# Altium footprint library Moudle_PcbLib.PcbLib: 5 footprints
Each footprint in its own frame and in the unit in brackets; x right, y up, seen from the top. Pads: shape width x height; smd on the part's side, far side on the other; paste and mask are expansions set on the pad; w line width, h text height; cw(c..) or ccw(c..) is an arc to the next point about the centre after c.
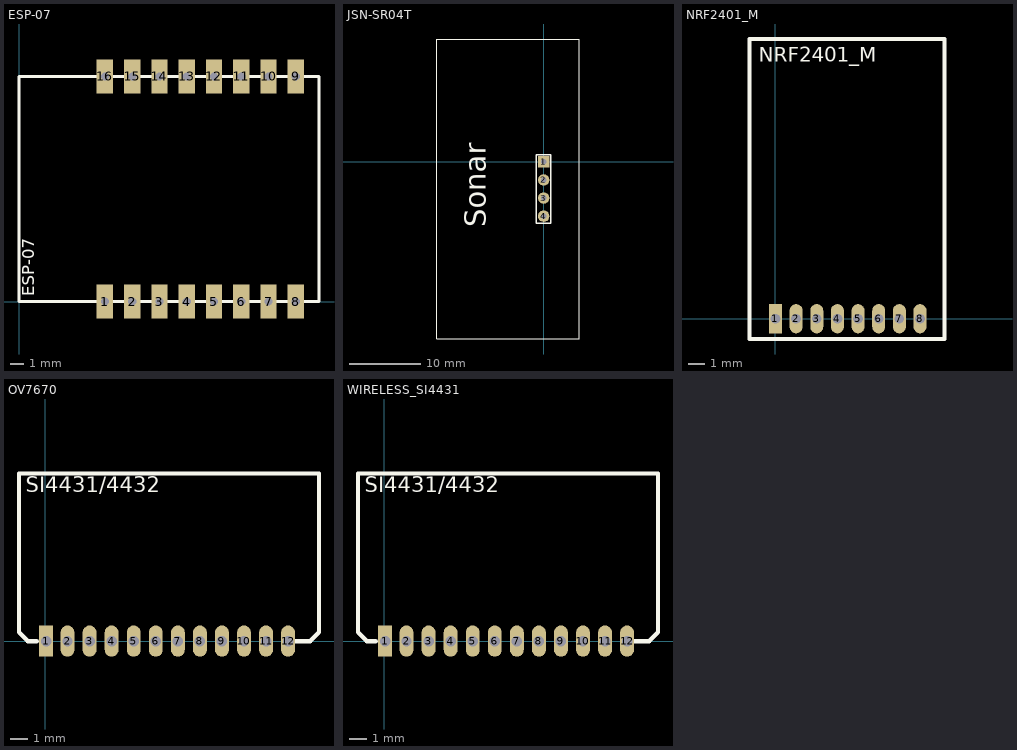
[diagram p0: the footprints below, top view; thin cyan lines are the x and y axes]

## ESP-07 [mm]
height 0.254
pads (16):
  rect 1.2x2.5 hole 0.6: 1(6.3,0) 2(8.3,0) 3(10.3,0) 4(12.3,0) 5(14.3,0) 6(16.3,0) 7(18.3,0) 8(20.3,0) 9(20.3,16.5) 10(18.3,16.5) 11(16.3,16.5) 12(14.3,16.5) 13(12.3,16.5) 14(10.3,16.5) 15(8.3,16.5) 16(6.3,16.5)
Top Overlay:
  lines w0.254: 14.224,0 15.24,0 ; 0,0 22,0 22,16.5 0,16.5 0,0
  text "ESP-07" at 1.397,0.381 h1.52

## JSN-SR04T [mm]
pads (4):
  rect 1.6x1.6 hole 0.8: 1(0,0)
  round 1.6 hole 0.8: 2(0,-2.54) 3(0,-5.08) 4(0,-7.62)
Top Overlay:
  lines w0.152: -15,-24.81 -15,17.19 5,17.19 5,-24.81 -15,-24.81
  lines w0.2: -1.016,-8.636 1.016,-8.636 1.016,-8.128 1.016,-3.556 1.016,1.016 -1.016,1.016 -1.016,-3.556 -1.016,-8.128 -1.016,-8.636
  text "Sonar" at -7.112,-9.144 h5.08

## NRF2401_M [mm]
height 0.381
pads (8):
  rect 0.8x1.8 hole 0.6 unplated: 1(0,0)
  oval 0.8x1.8 hole 0.6: 2(1.27,0) 3(2.54,0) 4(3.81,0) 5(5.08,0) 6(6.35,0) 7(7.62,0) 8(8.89,0)
Top Overlay:
  lines w0.254: -1.6,-1.25 -1.6,17.2 10.4,17.2 10.4,-1.25 -1.6,-1.25
  text "NRF2401_M" at -1.016,15.494 h1.52

## OV7670 [mm]
height 0.508
pads (12):
  rect 0.8x1.8 hole 0.6: 1(0.04,0)
  oval 0.8x1.8 hole 0.6: 2(1.27,0) 3(2.54,0) 4(3.81,0) 5(5.08,0) 6(6.35,0) 7(7.62,0) 8(8.89,0) 9(10.16,0) 10(11.43,0) 11(12.7,0) 12(13.97,0)
Top Overlay:
  lines w0.254: -0.508,0 -1.016,0 -1.524,0.508 -1.524,3.048 -1.524,9.652 15.748,9.652 15.748,0.508 15.24,0 14.224,0
  text "SI4431/4432" at -1.143,8.255 h1.52

## WIRELESS_SI4431 [mm]
height 0.508
pads (12):
  rect 0.8x1.8 hole 0.6: 1(0.04,0)
  oval 0.8x1.8 hole 0.6: 2(1.27,0) 3(2.54,0) 4(3.81,0) 5(5.08,0) 6(6.35,0) 7(7.62,0) 8(8.89,0) 9(10.16,0) 10(11.43,0) 11(12.7,0) 12(13.97,0)
Top Overlay:
  lines w0.254: -0.508,0 -1.016,0 -1.524,0.508 -1.524,3.048 -1.524,9.652 15.748,9.652 15.748,0.508 15.24,0 14.224,0
  text "SI4431/4432" at -1.143,8.255 h1.52